# Altium footprint library PMSM.PcbLib: 22 footprints (part 1 of 2)
Each footprint in its own frame and in the unit in brackets; x right, y up, seen from the top. Pads: shape width x height; smd on the part's side, far side on the other; paste and mask are expansions set on the pad; w line width, h text height; cw(c..) or ccw(c..) is an arc to the next point about the centre after c.
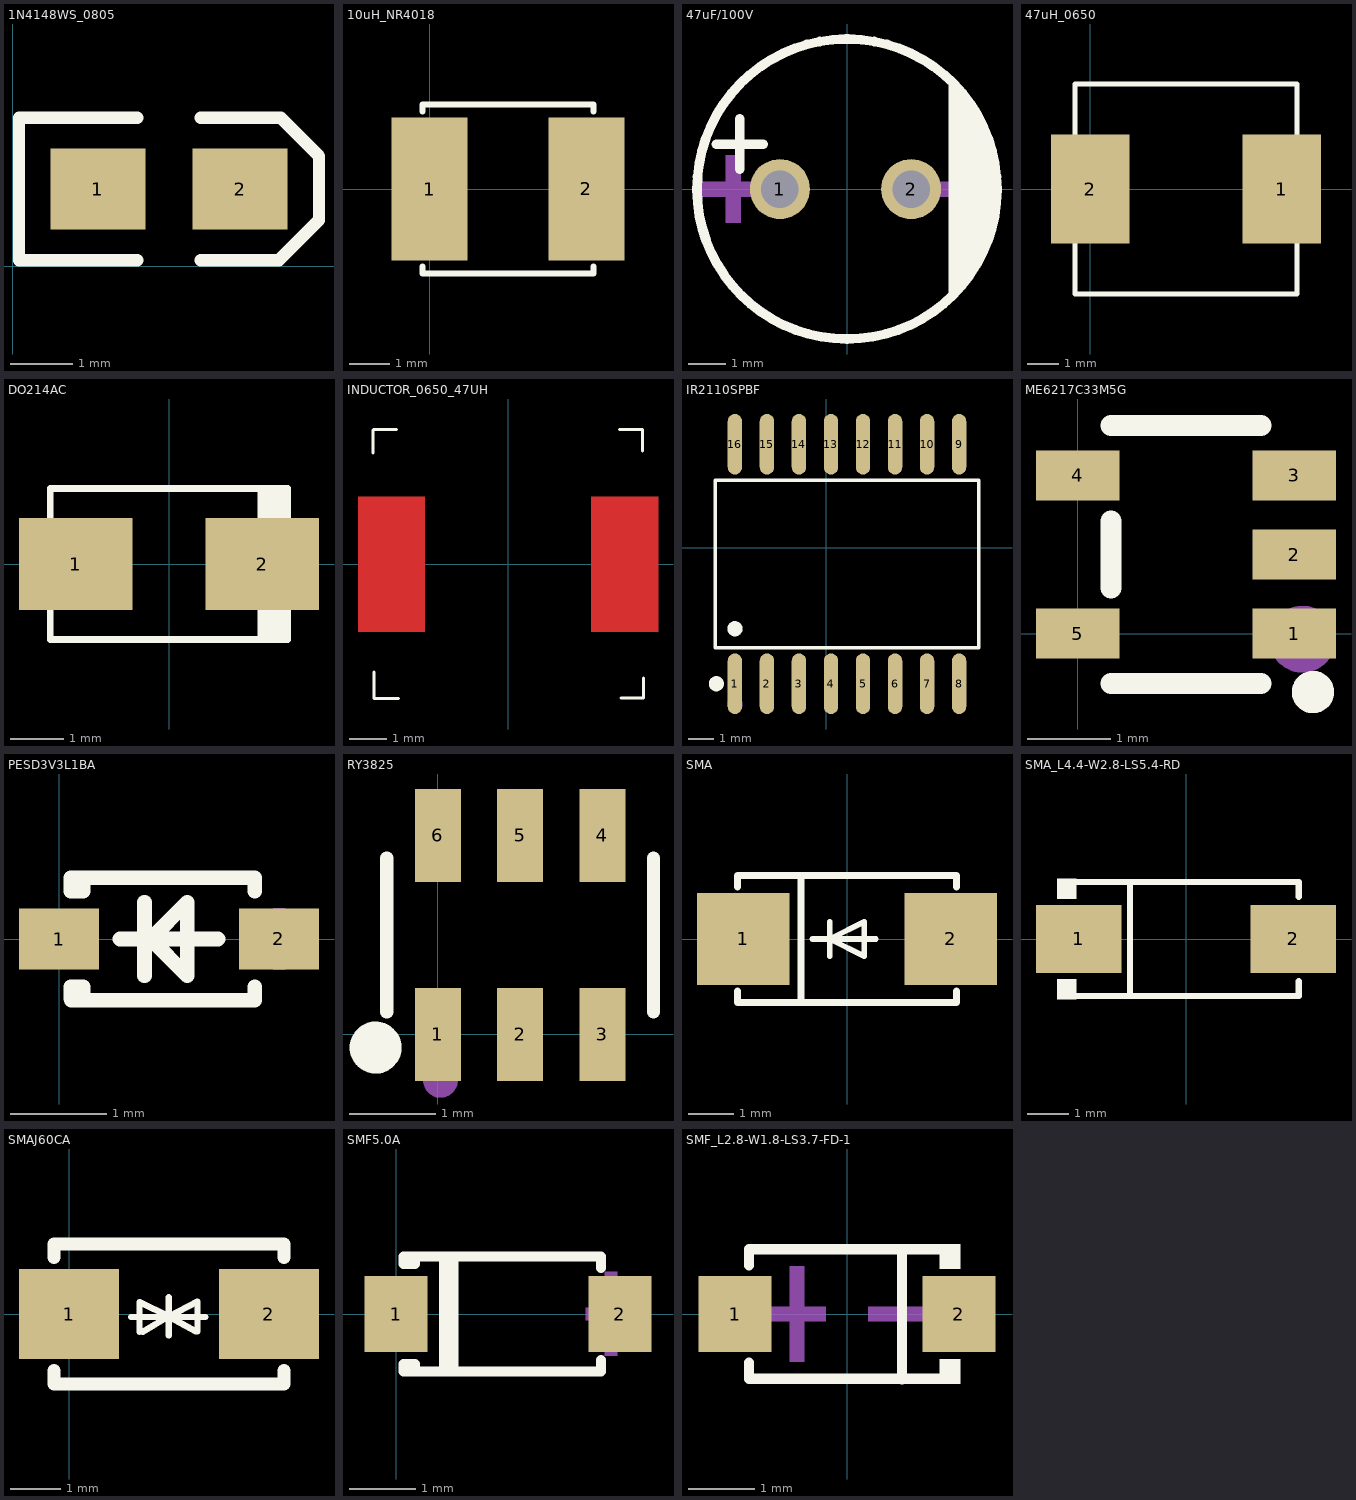
[diagram p0: the footprints below, top view; thin cyan lines are the x and y axes]

## 1N4148WS_0805 [mm]
pads (2):
  rect 1.524x1.3 smd: 1(1.37,1.243) 2(3.656,1.243)
Top Overlay:
  lines w0.2: 2.005,0.1 0.1,0.1 0.1,2.386 2.005,2.386 ; 3.021,0.1 4.283,0.1 4.926,0.743 4.926,1.773 4.313,2.386 3.021,2.386
Mechanical 15:
  lines w0.003: 3.211,1.37 3.212,1.37

## 10uH_NR4018 [mm]
pads (2):
  rect 1.874x3.52 smd: 1(0,0) 2(3.856,0)
Top Overlay:
  lines w0.152: -0.173,-1.912 -0.173,-2.076 4.029,-2.076 4.029,-1.912 ; -0.173,1.912 -0.173,2.076 4.029,2.076 4.029,1.912

## 47uF/100V [mm]
pads (2):
  round 1.6 hole 1: 1(-1.788,-0.001) 2(1.712,-0.001)
Top Overlay:
  region: 2.712,-3.001 2.902,-2.801 3.23,-2.356 3.498,-1.873 3.703,-1.36 3.842,-0.825 3.912,-0.277 3.912,0.276 3.842,0.824 3.703,1.358 3.498,1.871 3.23,2.354 2.902,2.799 2.712,2.999
  lines w0.254: -3.483,1.199 -2.238,1.199 ; -2.86,0.526 -2.86,1.872 ; -0.036,4 ccw(c0,0) 0.036,4
Mechanical 15:
  region: -3.238,0.499 -3.238,-0.901 -2.838,-0.901 -2.838,0.699 -2.838,0.899 -3.238,0.899
  region: -2.538,0.199 -3.938,0.199 -3.938,-0.201 -2.338,-0.201 -2.138,-0.201 -2.138,0.199
  region: 3.462,0.199 2.062,0.199 2.062,-0.201 3.662,-0.201 3.862,-0.201 3.862,0.199

## 47uH_0650 [mm]
pads (2):
  rect 2.524x3.5 smd: 1(6.156,0) 2(0,0)
Top Overlay:
  lines w0.152: -0.498,-1.712 -0.498,-3.376 6.654,-3.376 6.654,-1.712 ; -0.498,1.712 -0.498,3.376 6.654,3.376 6.654,1.712

## DO214AC [mil]
pads (2):
  rect 84x68 smd: 1(-69.2,0) 2(69.2,0)
Top Overlay:
  lines w5.08: 68,-56 68,56 ; 72,-56 72,56 ; 76,-56 76,56 ; 80,-56 80,56 ; 84,-56 84,56 ; -88,-56 88,-56 88,56 -88,56 -88,-56

## INDUCTOR_0650_47UH [mm]
Top Layer:
  region: -4.037,1.808 -2.237,1.808 -2.237,-1.824 -4.037,-1.824
  region: 2.237,1.808 4.037,1.808 4.037,-1.824 2.237,-1.824
Top Overlay:
  lines w0.076: -3.633,2.989 -3.633,3.611 ; -3.619,3.624 -2.997,3.624 ; -3.607,-3.624 -3.607,-2.904 ; -3.594,-3.624 -2.946,-3.624 ; 2.997,3.624 3.619,3.624 3.619,3.04 ; 3.045,-3.609 3.445,-3.609 3.645,-3.609 3.645,-3.067
Top Paste:
  region: -4.037,1.808 -2.237,1.808 -2.237,-1.824 -4.037,-1.824
  region: 2.237,1.808 4.037,1.808 4.037,-1.824 2.237,-1.824
Top Solder:
  region: -4.037,1.808 -2.237,1.808 -2.237,-1.824 -4.037,-1.824
  region: 2.237,1.808 4.037,1.808 4.037,-1.824 2.237,-1.824

## IR2110SPBF [mm]
pads (16):
  oval 0.574x2.401 smd: 1(-3.613,-5.404) 2(-2.343,-5.404) 3(-1.073,-5.404) 4(0.197,-5.404) 5(1.467,-5.404) 6(2.737,-5.404) 7(4.007,-5.404) 8(5.277,-5.404) 9(5.277,4.097) 10(4.007,4.097) 11(2.737,4.097) 12(1.467,4.097) 13(0.197,4.097) 14(-1.073,4.097) 15(-2.343,4.097) 16(-3.613,4.097)
Top Overlay:
  circle w0.3: c-4.352,-5.404 r0.15
  circle w0.3: c-3.613,-3.222 r0.15
  lines w0.152: -4.394,-3.975 6.058,-3.975 6.058,2.668 -4.394,2.668 -4.394,-3.975
Mechanical 15:
  circle w0.3: c-3.613,-6.216 r0.15

## ME6217C33M5G [mm]
pads (5):
  rect 1x0.6 smd: 1(2.6,0) 2(2.6,0.95) 3(2.6,1.9) 4(0,1.9) 5(0,0)
Top Overlay:
  circle w0.254: c2.824,-0.701 r0.127
  lines w0.254: 0.4,-0.6 2.2,-0.6 ; 0.4,0.55 0.4,1.35 ; 0.4,2.5 2.2,2.5
Mechanical 15:
  circle w0.4: c2.697,-0.066 r0.2

## PESD3V3L1BA [mm]
pads (2):
  rect 0.83x0.63 smd: 1(0,0) 2(2.28,0)
Top Overlay:
  lines w0.152: 0.12,-0.62 0.12,-0.495 0.251,-0.495 0.251,-0.595 0.251,-0.635 2.029,-0.635 2.029,-0.495 ; 0.126,-0.635 0.364,-0.635 ; 0.251,0.595 0.251,0.635 ; 0.632,0 1.648,0 ; 0.886,-0.381 0.886,0.381 ; 2.029,0.495 2.029,0.635 0.251,0.635 ; 0.251,0.635 0.12,0.635 0.12,0.495 0.251,0.495 0.251,0.635 ; 0.949,0 1.33,-0.381 1.33,0.381 0.949,0
Mechanical 15:
  region: -0.321,0.064 -0.321,-0.063 0.314,-0.063 0.314,0.064
  region: 1.965,0.064 1.965,-0.063 2.219,-0.063 2.219,-0.317 2.346,-0.317 2.346,-0.063 2.6,-0.063 2.6,0.064 2.346,0.064 2.346,0.318 2.219,0.318 2.219,0.064

## RY3825 [mm]
pads (6):
  rect 0.532x1.072 smd: 1(0,0) 2(0.95,0) 3(1.9,0) 4(1.9,2.298) 5(0.95,2.298) 6(0,2.298)
Top Overlay:
  circle w0.3: c-0.718,-0.153 r0.15
  lines w0.152: -0.589,0.26 -0.589,2.038 ; 2.489,0.26 2.489,2.038
Mechanical 15:
  circle w0.2: c0.03,-0.531 r0.1

## SMA [mil]
pads (2):
  rect 80x80 smd: 1(-90,0) 2(90,0)
Top Overlay:
  lines w5: -15,15 -15,0 ; 25,0 -30,0 -15,0 ; -15,0 15,15 15,-15 -15,0 ; -15,0 -15,-15 -15,0
  lines w6: -95,-45 -95,-55 95,-55 95,-45 ; -95,45 -95,55 95,55 95,45 ; -40,-53.69 -40,53.69
Mechanical 15:
  region: 84.34,-25.34 84.34,25.34 76.74,25.34 76.74,-25.34
  region: 95.75,-3.8 95.75,3.8 65.33,3.8 65.33,-3.8
  region: -95.74,-3.8 -95.74,3.8 -65.33,3.8 -65.33,-3.8

## SMA_L4.4-W2.8-LS5.4-RD [mm]
pads (2):
  rect 2.046x1.62 smd: 1(-2.565,0) 2(2.565,0)
Top Overlay:
  region: -2.625,1.44 -2.625,0.962 -3.082,0.962 -3.082,1.44
  region: -2.625,-1.44 -2.625,-0.962 -3.082,-0.962 -3.082,-1.44
  lines w0.152: -2.701,-1.364 2.701,-1.364 2.701,-1.013 ; -2.701,1.364 2.701,1.364 2.701,1.013 ; -1.339,-1.364 -1.339,1.364
Mechanical 15:
  region: -2.432,-0.097 -2.432,0.097 -1.659,0.097 -1.659,-0.097
  region: 2.432,-0.097 2.432,0.097 1.659,0.097 1.659,-0.097
  region: 2.142,-0.644 2.142,0.644 1.949,0.644 1.949,-0.644

## SMAJ60CA [mm]
pads (2):
  rect 2x1.8 smd: 1(0,0) 2(4,0)
Top Overlay:
  lines w0.127: 1.24,-0.06 2.73,-0.06 ; 1.41,-0.36 1.41,0.24 1.998,-0.049 ; 1.47,-0.36 1.998,-0.049 ; 1.998,-0.43 1.998,-0.049 ; 1.998,0.332 1.998,-0.049 ; 2.54,-0.35 1.998,-0.049 ; 2.57,-0.35 2.57,0.25 1.998,-0.049
  lines w0.254: -0.3,-1.131 -0.3,-1.4 4.3,-1.4 4.3,-1.131 ; -0.3,1.131 -0.3,1.4 4.3,1.4 4.3,1.131
Mechanical 15:
  lines w0.003: 3.397,0.127 3.397,0.127

## SMF5.0A [mm]
pads (2):
  rect 0.95x1.15 smd: 1(0,0) 2(3.385,0)
Top Overlay:
  lines w0.152: 0.723,-0.866 0.723,0.866 ; 0.865,-0.866 0.865,0.866 ; 3.099,-0.698 3.099,-0.866 0.286,-0.866 ; 3.099,0.698 3.099,0.866 0.286,0.866 ; 0.286,-0.866 0.112,-0.866 0.112,-0.755 0.286,-0.755 0.286,-0.866 ; 0.286,0.866 0.112,0.866 0.112,0.755 0.286,0.755 0.286,0.866
Mechanical 15:
  region: -0.338,0.095 -0.338,-0.095 0.421,-0.095 0.421,0.095
  region: 3.628,0.098 3.628,-0.092 2.869,-0.092 2.869,0.098
  region: 3.344,0.635 3.344,-0.629 3.154,-0.629 3.154,0.635

## SMF12A [mm]

## SMF_L2.8-W1.8-LS3.7-FD-1 [mm]
pads (2):
  rect 1.1x1.15 smd: 1(-1.685,0.003) 2(1.685,0.003)
Top Overlay:
  region: 1.4,1.056 1.4,0.686 1.705,0.686 1.705,1.056
  region: 1.4,-1.049 1.4,-0.679 1.705,-0.679 1.705,-1.049
  lines w0.152: -1.476,-0.73 -1.476,-0.973 1.476,-0.973 ; -1.476,0.737 -1.476,0.98 1.476,0.98 ; 0.831,-0.98 0.831,0.973
Mechanical 15:
  region: -0.86,-0.717 -0.86,0.723 -0.644,0.723 -0.644,-0.717
  region: -1.184,-0.105 -1.184,0.111 -0.32,0.111 -0.32,-0.105
  region: 1.184,-0.105 1.184,0.111 0.32,0.111 0.32,-0.105